# EAGLE library part THS4532 (library Soil Power Sensor)
Dual, Ultra low power 0.25mA, RRO, fully differential amplifier
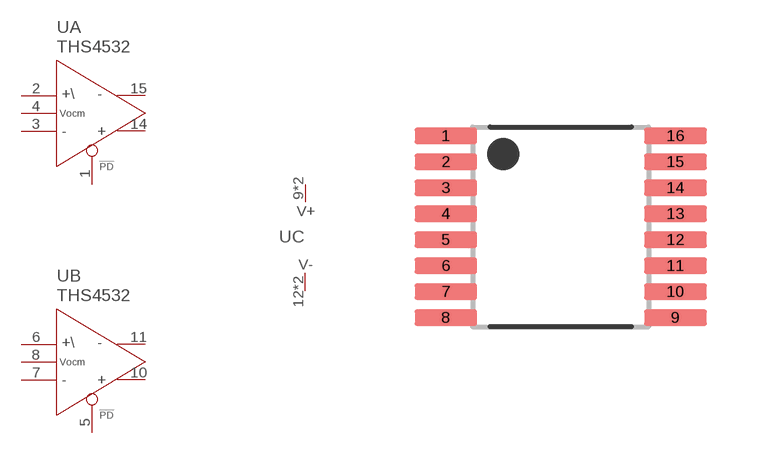
[diagram p7: symbol with the pads of SOP65P640X120-16N; footprint SOP65P640X120-16N]

Designator prefix U; gates A=OPAMP_DIFF_OCM_PD B=OPAMP_DIFF_OCM_PD C=V+V-

## THS4532 (AUTHOR: John Madden <jmadden173@pm.me>; DATE_CREATED: 2023-04-06; DATE_MODIFIED: 2023-04-06; MFC: TI; MPN: THS4532IPW; REF: https://www.ti.com/product/THS4532)  [SOP65P640X120-16N]
1  A:!PD  in
2  A:+IN  in
3  A:-IN  in
4  A:VOCM  in
5  B:!PD  in
6  B:+IN  in
7  B:-IN  in
8  B:VOCM  in
9  C:V+  pwr
10  B:OUT+  out
11  B:OUT-  out
12  C:V-  pwr
13  C:V+  pwr
14  A:OUT+  out
15  A:OUT-  out
16  C:V-  pwr

## Footprint SOP65P640X120-16N (pad centres in mm)
From SnapEDA
smd 1.57 x 0.41: 1 -2.87,2.275; 2 -2.87,1.625; 3 -2.87,0.975; 4 -2.87,0.325; 5 -2.87,-0.325; 6 -2.87,-0.975; 7 -2.87,-1.625; 8 -2.87,-2.275; 9 2.87,-2.275; 10 2.87,-1.625; 11 2.87,-0.975; 12 2.87,-0.325; 13 2.87,0.325; 14 2.87,0.975; 15 2.87,1.625; 16 2.87,2.275